# Altium footprint library TerminalBlock_WAGO.PcbLib: 170 footprints (part 8 of 11)
Each footprint in its own frame and in the unit in brackets; x right, y up, seen from the top. Pads: shape width x height; smd on the part's side, far side on the other; paste and mask are expansions set on the pad; w line width, h text height; cw(c..) or ccw(c..) is an arc to the next point about the centre after c.
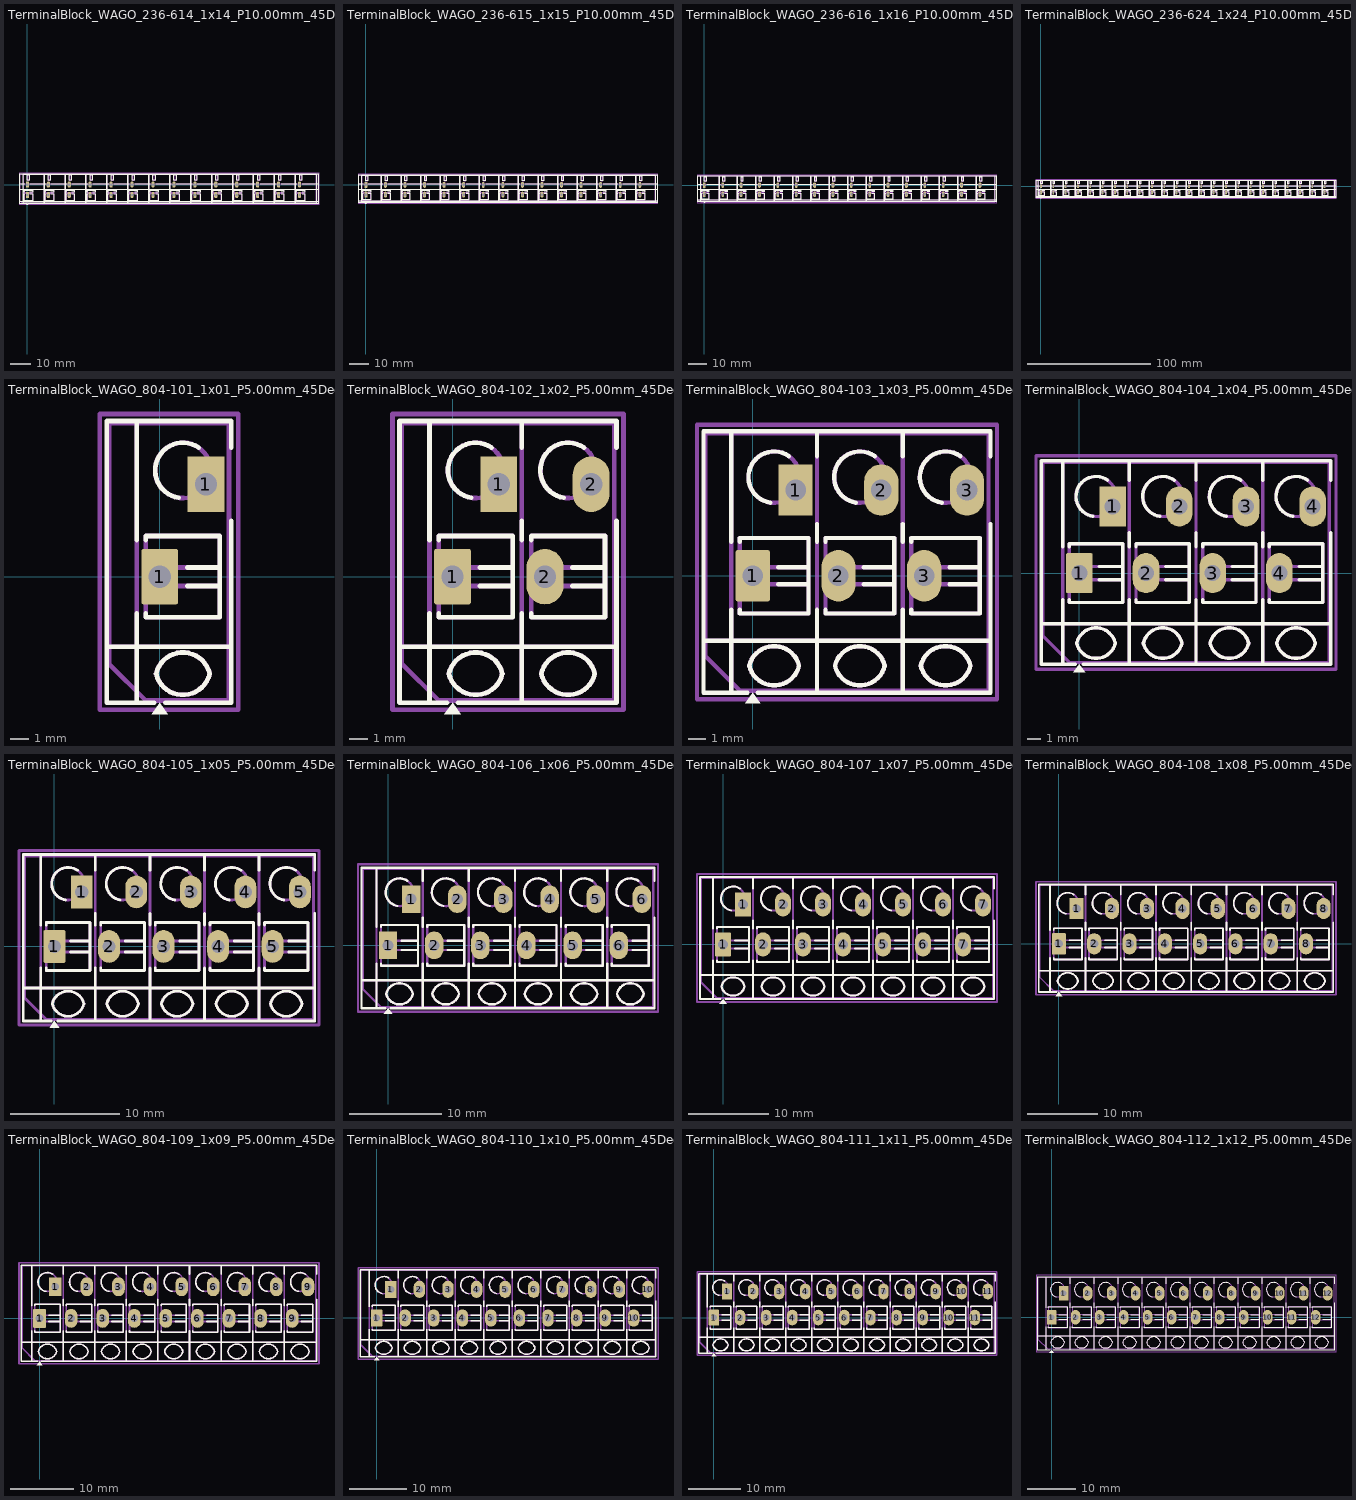
[diagram p7: the footprints below, top view; thin cyan lines are the x and y axes]

## TerminalBlock_WAGO_236-614_1x14_P10.00mm_45Degree [mm]
pads (28):
  rect 1.5x3 hole 1.15: 1(0,-5)
  rrect17% 1.5x3 hole 1.15: 1(0,0)
  rrect100% 1.5x3 hole 1.15: 2(10,-5) 2(10,0) 3(20,-5) 3(20,0) 4(30,-5) 4(30,0) 5(40,-5) 5(40,0) 6(50,-5) 6(50,0) 7(60,-5) 7(60,0) 8(70,-5) 8(70,0) 9(80,-5) 9(80,0) 10(90,-5) 10(90,0) 11(100,-5) 11(100,0) 12(110,-5) 12(110,0) 13(120,-5) 13(120,0) 14(130,-5) 14(130,0)
F.SilkS:
  drawing of 275 lines, arcs and shapes, not listed
F.Fab:
  drawing of 232 lines, arcs and shapes, not listed
  text "'.Designator'" at 63.603,-1.84 h1
F.CrtYd:
  lines w0.254: -4,-9.5 -4,5.5 139.3,5.5 139.3,-9.5 -4,-9.5

## TerminalBlock_WAGO_236-615_1x15_P10.00mm_45Degree [mm]
pads (30):
  rect 1.5x3 hole 1.15: 1(0,-5)
  rrect17% 1.5x3 hole 1.15: 1(0,0)
  rrect100% 1.5x3 hole 1.15: 2(10,-5) 2(10,0) 3(20,-5) 3(20,0) 4(30,-5) 4(30,0) 5(40,-5) 5(40,0) 6(50,-5) 6(50,0) 7(60,-5) 7(60,0) 8(70,-5) 8(70,0) 9(80,-5) 9(80,0) 10(90,-5) 10(90,0) 11(100,-5) 11(100,0) 12(110,-5) 12(110,0) 13(120,-5) 13(120,0) 14(130,-5) 14(130,0) 15(140,-5) 15(140,0)
F.SilkS:
  drawing of 294 lines, arcs and shapes, not listed
F.Fab:
  drawing of 248 lines, arcs and shapes, not listed
  text "'.Designator'" at 68.603,-1.84 h1
F.CrtYd:
  lines w0.254: -4,-9.5 -4,5.5 149.3,5.5 149.3,-9.5 -4,-9.5

## TerminalBlock_WAGO_236-616_1x16_P10.00mm_45Degree [mm]
pads (32):
  rect 1.5x3 hole 1.15: 1(0,-5)
  rrect17% 1.5x3 hole 1.15: 1(0,0)
  rrect100% 1.5x3 hole 1.15: 2(10,-5) 2(10,0) 3(20,-5) 3(20,0) 4(30,-5) 4(30,0) 5(40,-5) 5(40,0) 6(50,-5) 6(50,0) 7(60,-5) 7(60,0) 8(70,-5) 8(70,0) 9(80,-5) 9(80,0) 10(90,-5) 10(90,0) 11(100,-5) 11(100,0) 12(110,-5) 12(110,0) 13(120,-5) 13(120,0) 14(130,-5) 14(130,0) 15(140,-5) 15(140,0) 16(150,-5) 16(150,0)
F.SilkS:
  drawing of 313 lines, arcs and shapes, not listed
F.Fab:
  drawing of 264 lines, arcs and shapes, not listed
  text "'.Designator'" at 73.603,-1.84 h1
F.CrtYd:
  lines w0.254: -4,-9.5 -4,5.5 159.3,5.5 159.3,-9.5 -4,-9.5

## TerminalBlock_WAGO_236-624_1x24_P10.00mm_45Degree [mm]
pads (48):
  rect 1.5x3 hole 1.15: 1(0,-5)
  rrect17% 1.5x3 hole 1.15: 1(0,0)
  rrect100% 1.5x3 hole 1.15: 2(10,-5) 2(10,0) 3(20,-5) 3(20,0) 4(30,-5) 4(30,0) 5(40,-5) 5(40,0) 6(50,-5) 6(50,0) 7(60,-5) 7(60,0) 8(70,-5) 8(70,0) 9(80,-5) 9(80,0) 10(90,-5) 10(90,0) 11(100,-5) 11(100,0) 12(110,-5) 12(110,0) 13(120,-5) 13(120,0) 14(130,-5) 14(130,0) 15(140,-5) 15(140,0) 16(150,-5) 16(150,0) 17(160,-5) 17(160,0) 18(170,-5) 18(170,0) 19(180,-5) 19(180,0) 20(190,-5) 20(190,0) 21(200,-5) 21(200,0) 22(210,-5) 22(210,0) 23(220,-5) 23(220,0) 24(230,-5) 24(230,0)
F.SilkS:
  drawing of 465 lines, arcs and shapes, not listed
F.Fab:
  drawing of 392 lines, arcs and shapes, not listed
  text "'.Designator'" at 113.603,-1.84 h1
F.CrtYd:
  lines w0.254: -4,-9.5 -4,5.5 239.3,5.5 239.3,-9.5 -4,-9.5

## TerminalBlock_WAGO_804-101_1x01_P5.00mm_45Degree [mm]
pads (2):
  rrect12% 2x3 hole 1.2: 1(0,0)
  rect 2x3 hole 1.2: 1(2.5,5)
F.SilkS:
  region: 0.44,-7.43 -0.44,-7.43 0,-6.82
  lines w0.254: -2.87,-3.8 3.87,-3.8 ; -1.25,-6.82 -1.25,-1.98 ; -1.25,1.98 -1.25,8.42 ; -0.75,-1.98 -0.75,-2.2 3.25,-2.2 3.25,2.2 -0.75,2.2 -0.75,1.98 ; -0.3,-6.82 -2.87,-6.82 -2.87,8.42 3.87,8.42 3.87,6.98 ; 0.3,-6.82 3.87,-6.82 3.87,3.02 ; 1.02,4.268 cw(c1.25,5.75) 2.109,6.98 ; 1.48,-0.5 3.25,-0.5 3.25,0.5 1.48,0.5 ; -0.2,-5.25 cw(c1.25,-5.589) 2.7,-5.25 cw(c1.25,-4.911) -0.2,-5.25
F.Fab:
  circle w0.254: c1.25,5.75 r1.5
  lines w0.254: -2.75,-3.8 3.75,-3.8 ; -1.25,-6.7 -1.25,8.3 ; -2.75,-4.7 -2.75,8.3 3.75,8.3 3.75,-6.7 -0.75,-6.7 -2.75,-4.7 ; -0.75,-2.2 -0.75,2.2 3.25,2.2 3.25,-2.2 -0.75,-2.2 ; -0.75,-0.5 -0.75,0.5 3.25,0.5 3.25,-0.5 -0.75,-0.5 ; -0.2,-5.25 cw(c1.25,-5.589) 2.7,-5.25 cw(c1.25,-4.911) -0.2,-5.25
  text "'.Designator'" at -3.547,0.96 h1
F.CrtYd:
  lines w0.254: -3.25,-7.2 -3.25,8.8 4.25,8.8 4.25,-7.2 -3.25,-7.2

## TerminalBlock_WAGO_804-102_1x02_P5.00mm_45Degree [mm]
pads (4):
  rrect12% 2x3 hole 1.2: 1(0,0)
  rect 2x3 hole 1.2: 1(2.5,5)
  rrect100% 2x3 hole 1.2: 2(5,0) 2(7.5,5)
F.SilkS:
  region: 0.44,-7.43 -0.44,-7.43 0,-6.82
  lines w0.254: -2.87,-3.8 8.87,-3.8 ; -1.25,-6.82 -1.25,-1.98 ; -1.25,1.98 -1.25,8.42 ; -0.75,-1.98 -0.75,-2.2 3.25,-2.2 3.25,2.2 -0.75,2.2 -0.75,1.98 ; -0.3,-6.82 -2.87,-6.82 -2.87,8.42 8.87,8.42 8.87,6.98 ; 0.3,-6.82 8.87,-6.82 8.87,3.02 ; 1.02,4.268 cw(c1.25,5.75) 2.109,6.98 ; 1.48,-0.5 3.25,-0.5 3.25,0.5 1.48,0.5 ; 3.75,-6.82 3.75,-1.98 ; 3.75,1.98 3.75,3.02 ; 3.75,6.98 3.75,8.42 ; 4.25,-1.98 4.25,-2.2 8.25,-2.2 8.25,2.2 4.25,2.2 4.25,1.98 ; 6.02,4.268 cw(c6.25,5.75) 7.109,6.98 ; 6.48,-0.5 8.25,-0.5 8.25,0.5 6.48,0.5 ; -0.2,-5.25 cw(c1.25,-5.589) 2.7,-5.25 cw(c1.25,-4.911) -0.2,-5.25 ; 4.8,-5.25 cw(c6.25,-5.589) 7.7,-5.25 cw(c6.25,-4.911) 4.8,-5.25
F.Fab:
  circle w0.254: c1.25,5.75 r1.5
  circle w0.254: c6.25,5.75 r1.5
  lines w0.254: -2.75,-3.8 8.75,-3.8 ; -1.25,-6.7 -1.25,8.3 ; 3.75,-6.7 3.75,8.3 ; -2.75,-4.7 -2.75,8.3 8.75,8.3 8.75,-6.7 -0.75,-6.7 -2.75,-4.7 ; -0.75,-2.2 -0.75,2.2 3.25,2.2 3.25,-2.2 -0.75,-2.2 ; -0.75,-0.5 -0.75,0.5 3.25,0.5 3.25,-0.5 -0.75,-0.5 ; -0.2,-5.25 cw(c1.25,-5.589) 2.7,-5.25 cw(c1.25,-4.911) -0.2,-5.25 ; 4.25,-2.2 4.25,2.2 8.25,2.2 8.25,-2.2 4.25,-2.2 ; 4.25,-0.5 4.25,0.5 8.25,0.5 8.25,-0.5 4.25,-0.5 ; 4.8,-5.25 cw(c6.25,-5.589) 7.7,-5.25 cw(c6.25,-4.911) 4.8,-5.25
  text "'.Designator'" at -1.047,0.96 h1
F.CrtYd:
  lines w0.254: -3.25,-7.2 -3.25,8.8 9.25,8.8 9.25,-7.2 -3.25,-7.2

## TerminalBlock_WAGO_804-103_1x03_P5.00mm_45Degree [mm]
pads (6):
  rrect12% 2x3 hole 1.2: 1(0,0)
  rect 2x3 hole 1.2: 1(2.5,5)
  rrect100% 2x3 hole 1.2: 2(5,0) 2(7.5,5) 3(10,0) 3(12.5,5)
F.SilkS:
  region: 0.44,-7.43 -0.44,-7.43 0,-6.82
  lines w0.254: -2.87,-3.8 13.87,-3.8 ; -1.25,-6.82 -1.25,-1.98 ; -1.25,1.98 -1.25,8.42 ; -0.75,-1.98 -0.75,-2.2 3.25,-2.2 3.25,2.2 -0.75,2.2 -0.75,1.98 ; -0.3,-6.82 -2.87,-6.82 -2.87,8.42 13.87,8.42 13.87,6.98 ; 0.3,-6.82 13.87,-6.82 13.87,3.02 ; 1.02,4.268 cw(c1.25,5.75) 2.109,6.98 ; 1.48,-0.5 3.25,-0.5 3.25,0.5 1.48,0.5 ; 3.75,-6.82 3.75,-1.98 ; 3.75,1.98 3.75,3.02 ; 3.75,6.98 3.75,8.42 ; 4.25,-1.98 4.25,-2.2 8.25,-2.2 8.25,2.2 4.25,2.2 4.25,1.98 ; 6.02,4.268 cw(c6.25,5.75) 7.109,6.98 ; 6.48,-0.5 8.25,-0.5 8.25,0.5 6.48,0.5 ; 8.75,-6.82 8.75,-1.98 ; 8.75,1.98 8.75,3.02 ; 8.75,6.98 8.75,8.42 ; 9.25,-1.98 9.25,-2.2 13.25,-2.2 13.25,2.2 9.25,2.2 9.25,1.98 ; 11.02,4.268 cw(c11.25,5.75) 12.109,6.98 ; 11.48,-0.5 13.25,-0.5 13.25,0.5 11.48,0.5 ; -0.2,-5.25 cw(c1.25,-5.589) 2.7,-5.25 cw(c1.25,-4.911) -0.2,-5.25 ; 4.8,-5.25 cw(c6.25,-5.589) 7.7,-5.25 cw(c6.25,-4.911) 4.8,-5.25 ; 9.8,-5.25 cw(c11.25,-5.589) 12.7,-5.25 cw(c11.25,-4.911) 9.8,-5.25
F.Fab:
  circle w0.254: c1.25,5.75 r1.5
  circle w0.254: c6.25,5.75 r1.5
  circle w0.254: c11.25,5.75 r1.5
  lines w0.254: -2.75,-3.8 13.75,-3.8 ; -1.25,-6.7 -1.25,8.3 ; 3.75,-6.7 3.75,8.3 ; 8.75,-6.7 8.75,8.3 ; -2.75,-4.7 -2.75,8.3 13.75,8.3 13.75,-6.7 -0.75,-6.7 -2.75,-4.7 ; -0.75,-2.2 -0.75,2.2 3.25,2.2 3.25,-2.2 -0.75,-2.2 ; -0.75,-0.5 -0.75,0.5 3.25,0.5 3.25,-0.5 -0.75,-0.5 ; -0.2,-5.25 cw(c1.25,-5.589) 2.7,-5.25 cw(c1.25,-4.911) -0.2,-5.25 ; 4.25,-2.2 4.25,2.2 8.25,2.2 8.25,-2.2 4.25,-2.2 ; 4.25,-0.5 4.25,0.5 8.25,0.5 8.25,-0.5 4.25,-0.5 ; 4.8,-5.25 cw(c6.25,-5.589) 7.7,-5.25 cw(c6.25,-4.911) 4.8,-5.25 ; 9.25,-2.2 9.25,2.2 13.25,2.2 13.25,-2.2 9.25,-2.2 ; 9.25,-0.5 9.25,0.5 13.25,0.5 13.25,-0.5 9.25,-0.5 ; 9.8,-5.25 cw(c11.25,-5.589) 12.7,-5.25 cw(c11.25,-4.911) 9.8,-5.25
  text "'.Designator'" at 1.453,0.96 h1
F.CrtYd:
  lines w0.254: -3.25,-7.2 -3.25,8.8 14.25,8.8 14.25,-7.2 -3.25,-7.2

## TerminalBlock_WAGO_804-104_1x04_P5.00mm_45Degree [mm]
pads (8):
  rrect12% 2x3 hole 1.2: 1(0,0)
  rect 2x3 hole 1.2: 1(2.5,5)
  rrect100% 2x3 hole 1.2: 2(5,0) 2(7.5,5) 3(10,0) 3(12.5,5) 4(15,0) 4(17.5,5)
F.SilkS:
  region: 0.44,-7.43 -0.44,-7.43 0,-6.82
  lines w0.254: -2.87,-3.8 18.87,-3.8 ; -1.25,-6.82 -1.25,-1.98 ; -1.25,1.98 -1.25,8.42 ; -0.75,-1.98 -0.75,-2.2 3.25,-2.2 3.25,2.2 -0.75,2.2 -0.75,1.98 ; -0.3,-6.82 -2.87,-6.82 -2.87,8.42 18.87,8.42 18.87,6.98 ; 0.3,-6.82 18.87,-6.82 18.87,3.02 ; 1.02,4.268 cw(c1.25,5.75) 2.109,6.98 ; 1.48,-0.5 3.25,-0.5 3.25,0.5 1.48,0.5 ; 3.75,-6.82 3.75,-1.98 ; 3.75,1.98 3.75,3.02 ; 3.75,6.98 3.75,8.42 ; 4.25,-1.98 4.25,-2.2 8.25,-2.2 8.25,2.2 4.25,2.2 4.25,1.98 ; 6.02,4.268 cw(c6.25,5.75) 7.109,6.98 ; 6.48,-0.5 8.25,-0.5 8.25,0.5 6.48,0.5 ; 8.75,-6.82 8.75,-1.98 ; 8.75,1.98 8.75,3.02 ; 8.75,6.98 8.75,8.42 ; 9.25,-1.98 9.25,-2.2 13.25,-2.2 13.25,2.2 9.25,2.2 9.25,1.98 ; 11.02,4.268 cw(c11.25,5.75) 12.109,6.98 ; 11.48,-0.5 13.25,-0.5 13.25,0.5 11.48,0.5 ; 13.75,-6.82 13.75,-1.98 ; 13.75,1.98 13.75,3.02 ; 13.75,6.98 13.75,8.42 ; 14.25,-1.98 14.25,-2.2 18.25,-2.2 18.25,2.2 14.25,2.2 14.25,1.98 ; 16.02,4.268 cw(c16.25,5.75) 17.109,6.98 ; 16.48,-0.5 18.25,-0.5 18.25,0.5 16.48,0.5 ; -0.2,-5.25 cw(c1.25,-5.589) 2.7,-5.25 cw(c1.25,-4.911) -0.2,-5.25 ; 4.8,-5.25 cw(c6.25,-5.589) 7.7,-5.25 cw(c6.25,-4.911) 4.8,-5.25 ; 9.8,-5.25 cw(c11.25,-5.589) 12.7,-5.25 cw(c11.25,-4.911) 9.8,-5.25 ; 14.8,-5.25 cw(c16.25,-5.589) 17.7,-5.25 cw(c16.25,-4.911) 14.8,-5.25
F.Fab:
  circle w0.254: c1.25,5.75 r1.5
  circle w0.254: c6.25,5.75 r1.5
  circle w0.254: c11.25,5.75 r1.5
  circle w0.254: c16.25,5.75 r1.5
  lines w0.254: -2.75,-3.8 18.75,-3.8 ; -1.25,-6.7 -1.25,8.3 ; 3.75,-6.7 3.75,8.3 ; 8.75,-6.7 8.75,8.3 ; 13.75,-6.7 13.75,8.3 ; -2.75,-4.7 -2.75,8.3 18.75,8.3 18.75,-6.7 -0.75,-6.7 -2.75,-4.7 ; -0.75,-2.2 -0.75,2.2 3.25,2.2 3.25,-2.2 -0.75,-2.2 ; -0.75,-0.5 -0.75,0.5 3.25,0.5 3.25,-0.5 -0.75,-0.5 ; -0.2,-5.25 cw(c1.25,-5.589) 2.7,-5.25 cw(c1.25,-4.911) -0.2,-5.25 ; 4.25,-2.2 4.25,2.2 8.25,2.2 8.25,-2.2 4.25,-2.2 ; 4.25,-0.5 4.25,0.5 8.25,0.5 8.25,-0.5 4.25,-0.5 ; 4.8,-5.25 cw(c6.25,-5.589) 7.7,-5.25 cw(c6.25,-4.911) 4.8,-5.25 ; 9.25,-2.2 9.25,2.2 13.25,2.2 13.25,-2.2 9.25,-2.2 ; 9.25,-0.5 9.25,0.5 13.25,0.5 13.25,-0.5 9.25,-0.5 ; 9.8,-5.25 cw(c11.25,-5.589) 12.7,-5.25 cw(c11.25,-4.911) 9.8,-5.25 ; 14.25,-2.2 14.25,2.2 18.25,2.2 18.25,-2.2 14.25,-2.2 ; 14.25,-0.5 14.25,0.5 18.25,0.5 18.25,-0.5 14.25,-0.5 ; 14.8,-5.25 cw(c16.25,-5.589) 17.7,-5.25 cw(c16.25,-4.911) 14.8,-5.25
  text "'.Designator'" at 3.953,0.96 h1
F.CrtYd:
  lines w0.254: -3.25,-7.2 -3.25,8.8 19.25,8.8 19.25,-7.2 -3.25,-7.2

## TerminalBlock_WAGO_804-105_1x05_P5.00mm_45Degree [mm]
pads (10):
  rrect12% 2x3 hole 1.2: 1(0,0)
  rect 2x3 hole 1.2: 1(2.5,5)
  rrect100% 2x3 hole 1.2: 2(5,0) 2(7.5,5) 3(10,0) 3(12.5,5) 4(15,0) 4(17.5,5) 5(20,0) 5(22.5,5)
F.SilkS:
  region: 0.44,-7.43 -0.44,-7.43 0,-6.82
  lines w0.254: -2.87,-3.8 23.87,-3.8 ; -1.25,-6.82 -1.25,-1.98 ; -1.25,1.98 -1.25,8.42 ; -0.75,-1.98 -0.75,-2.2 3.25,-2.2 3.25,2.2 -0.75,2.2 -0.75,1.98 ; -0.3,-6.82 -2.87,-6.82 -2.87,8.42 23.87,8.42 23.87,6.98 ; 0.3,-6.82 23.87,-6.82 23.87,3.02 ; 1.02,4.268 cw(c1.25,5.75) 2.109,6.98 ; 1.48,-0.5 3.25,-0.5 3.25,0.5 1.48,0.5 ; 3.75,-6.82 3.75,-1.98 ; 3.75,1.98 3.75,3.02 ; 3.75,6.98 3.75,8.42 ; 4.25,-1.98 4.25,-2.2 8.25,-2.2 8.25,2.2 4.25,2.2 4.25,1.98 ; 6.02,4.268 cw(c6.25,5.75) 7.109,6.98 ; 6.48,-0.5 8.25,-0.5 8.25,0.5 6.48,0.5 ; 8.75,-6.82 8.75,-1.98 ; 8.75,1.98 8.75,3.02 ; 8.75,6.98 8.75,8.42 ; 9.25,-1.98 9.25,-2.2 13.25,-2.2 13.25,2.2 9.25,2.2 9.25,1.98 ; 11.02,4.268 cw(c11.25,5.75) 12.109,6.98 ; 11.48,-0.5 13.25,-0.5 13.25,0.5 11.48,0.5 ; 13.75,-6.82 13.75,-1.98 ; 13.75,1.98 13.75,3.02 ; 13.75,6.98 13.75,8.42 ; 14.25,-1.98 14.25,-2.2 18.25,-2.2 18.25,2.2 14.25,2.2 14.25,1.98 ; 16.02,4.268 cw(c16.25,5.75) 17.109,6.98 ; 16.48,-0.5 18.25,-0.5 18.25,0.5 16.48,0.5 ; 18.75,-6.82 18.75,-1.98 ; 18.75,1.98 18.75,3.02 ; 18.75,6.98 18.75,8.42 ; 19.25,-1.98 19.25,-2.2 23.25,-2.2 23.25,2.2 19.25,2.2 19.25,1.98 ; 21.02,4.268 cw(c21.25,5.75) 22.109,6.98 ; 21.48,-0.5 23.25,-0.5 23.25,0.5 21.48,0.5 ; -0.2,-5.25 cw(c1.25,-5.589) 2.7,-5.25 cw(c1.25,-4.911) -0.2,-5.25 ; 4.8,-5.25 cw(c6.25,-5.589) 7.7,-5.25 cw(c6.25,-4.911) 4.8,-5.25 ; 9.8,-5.25 cw(c11.25,-5.589) 12.7,-5.25 cw(c11.25,-4.911) 9.8,-5.25 ; 14.8,-5.25 cw(c16.25,-5.589) 17.7,-5.25 cw(c16.25,-4.911) 14.8,-5.25 ; 19.8,-5.25 cw(c21.25,-5.589) 22.7,-5.25 cw(c21.25,-4.911) 19.8,-5.25
F.Fab:
  circle w0.254: c1.25,5.75 r1.5
  circle w0.254: c6.25,5.75 r1.5
  circle w0.254: c11.25,5.75 r1.5
  circle w0.254: c16.25,5.75 r1.5
  circle w0.254: c21.25,5.75 r1.5
  lines w0.254: -2.75,-3.8 23.75,-3.8 ; -1.25,-6.7 -1.25,8.3 ; 3.75,-6.7 3.75,8.3 ; 8.75,-6.7 8.75,8.3 ; 13.75,-6.7 13.75,8.3 ; 18.75,-6.7 18.75,8.3 ; -2.75,-4.7 -2.75,8.3 23.75,8.3 23.75,-6.7 -0.75,-6.7 -2.75,-4.7 ; -0.75,-2.2 -0.75,2.2 3.25,2.2 3.25,-2.2 -0.75,-2.2 ; -0.75,-0.5 -0.75,0.5 3.25,0.5 3.25,-0.5 -0.75,-0.5 ; -0.2,-5.25 cw(c1.25,-5.589) 2.7,-5.25 cw(c1.25,-4.911) -0.2,-5.25 ; 4.25,-2.2 4.25,2.2 8.25,2.2 8.25,-2.2 4.25,-2.2 ; 4.25,-0.5 4.25,0.5 8.25,0.5 8.25,-0.5 4.25,-0.5 ; 4.8,-5.25 cw(c6.25,-5.589) 7.7,-5.25 cw(c6.25,-4.911) 4.8,-5.25 ; 9.25,-2.2 9.25,2.2 13.25,2.2 13.25,-2.2 9.25,-2.2 ; 9.25,-0.5 9.25,0.5 13.25,0.5 13.25,-0.5 9.25,-0.5 ; 9.8,-5.25 cw(c11.25,-5.589) 12.7,-5.25 cw(c11.25,-4.911) 9.8,-5.25 ; 14.25,-2.2 14.25,2.2 18.25,2.2 18.25,-2.2 14.25,-2.2 ; 14.25,-0.5 14.25,0.5 18.25,0.5 18.25,-0.5 14.25,-0.5 ; 14.8,-5.25 cw(c16.25,-5.589) 17.7,-5.25 cw(c16.25,-4.911) 14.8,-5.25 ; 19.25,-2.2 19.25,2.2 23.25,2.2 23.25,-2.2 19.25,-2.2 ; 19.25,-0.5 19.25,0.5 23.25,0.5 23.25,-0.5 19.25,-0.5 ; 19.8,-5.25 cw(c21.25,-5.589) 22.7,-5.25 cw(c21.25,-4.911) 19.8,-5.25
  text "'.Designator'" at 6.453,0.96 h1
F.CrtYd:
  lines w0.254: -3.25,-7.2 -3.25,8.8 24.25,8.8 24.25,-7.2 -3.25,-7.2

## TerminalBlock_WAGO_804-106_1x06_P5.00mm_45Degree [mm]
pads (12):
  rrect12% 2x3 hole 1.2: 1(0,0)
  rect 2x3 hole 1.2: 1(2.5,5)
  rrect100% 2x3 hole 1.2: 2(5,0) 2(7.5,5) 3(10,0) 3(12.5,5) 4(15,0) 4(17.5,5) 5(20,0) 5(22.5,5) 6(25,0) 6(27.5,5)
F.SilkS:
  region: 0.44,-7.43 -0.44,-7.43 0,-6.82
  lines w0.254: -2.87,-3.8 28.87,-3.8 ; -1.25,-6.82 -1.25,-1.98 ; -1.25,1.98 -1.25,8.42 ; -0.75,-1.98 -0.75,-2.2 3.25,-2.2 3.25,2.2 -0.75,2.2 -0.75,1.98 ; -0.3,-6.82 -2.87,-6.82 -2.87,8.42 28.87,8.42 28.87,6.98 ; 0.3,-6.82 28.87,-6.82 28.87,3.02 ; 1.02,4.268 cw(c1.25,5.75) 2.109,6.98 ; 1.48,-0.5 3.25,-0.5 3.25,0.5 1.48,0.5 ; 3.75,-6.82 3.75,-1.98 ; 3.75,1.98 3.75,3.02 ; 3.75,6.98 3.75,8.42 ; 4.25,-1.98 4.25,-2.2 8.25,-2.2 8.25,2.2 4.25,2.2 4.25,1.98 ; 6.02,4.268 cw(c6.25,5.75) 7.109,6.98 ; 6.48,-0.5 8.25,-0.5 8.25,0.5 6.48,0.5 ; 8.75,-6.82 8.75,-1.98 ; 8.75,1.98 8.75,3.02 ; 8.75,6.98 8.75,8.42 ; 9.25,-1.98 9.25,-2.2 13.25,-2.2 13.25,2.2 9.25,2.2 9.25,1.98 ; 11.02,4.268 cw(c11.25,5.75) 12.109,6.98 ; 11.48,-0.5 13.25,-0.5 13.25,0.5 11.48,0.5 ; 13.75,-6.82 13.75,-1.98 ; 13.75,1.98 13.75,3.02 ; 13.75,6.98 13.75,8.42 ; 14.25,-1.98 14.25,-2.2 18.25,-2.2 18.25,2.2 14.25,2.2 14.25,1.98 ; 16.02,4.268 cw(c16.25,5.75) 17.109,6.98 ; 16.48,-0.5 18.25,-0.5 18.25,0.5 16.48,0.5 ; 18.75,-6.82 18.75,-1.98 ; 18.75,1.98 18.75,3.02 ; 18.75,6.98 18.75,8.42 ; 19.25,-1.98 19.25,-2.2 23.25,-2.2 23.25,2.2 19.25,2.2 19.25,1.98 ; 21.02,4.268 cw(c21.25,5.75) 22.109,6.98 ; 21.48,-0.5 23.25,-0.5 23.25,0.5 21.48,0.5 ; 23.75,-6.82 23.75,-1.98 ; 23.75,1.98 23.75,3.02 ; 23.75,6.98 23.75,8.42 ; 24.25,-1.98 24.25,-2.2 28.25,-2.2 28.25,2.2 24.25,2.2 24.25,1.98 ; 26.02,4.268 cw(c26.25,5.75) 27.109,6.98 ; 26.48,-0.5 28.25,-0.5 28.25,0.5 26.48,0.5 ; -0.2,-5.25 cw(c1.25,-5.589) 2.7,-5.25 cw(c1.25,-4.911) -0.2,-5.25 ; 4.8,-5.25 cw(c6.25,-5.589) 7.7,-5.25 cw(c6.25,-4.911) 4.8,-5.25 ; 9.8,-5.25 cw(c11.25,-5.589) 12.7,-5.25 cw(c11.25,-4.911) 9.8,-5.25 ; 14.8,-5.25 cw(c16.25,-5.589) 17.7,-5.25 cw(c16.25,-4.911) 14.8,-5.25 ; 19.8,-5.25 cw(c21.25,-5.589) 22.7,-5.25 cw(c21.25,-4.911) 19.8,-5.25 ; 24.8,-5.25 cw(c26.25,-5.589) 27.7,-5.25 cw(c26.25,-4.911) 24.8,-5.25
F.Fab:
  circle w0.254: c1.25,5.75 r1.5
  circle w0.254: c6.25,5.75 r1.5
  circle w0.254: c11.25,5.75 r1.5
  circle w0.254: c16.25,5.75 r1.5
  circle w0.254: c21.25,5.75 r1.5
  circle w0.254: c26.25,5.75 r1.5
  lines w0.254: -2.75,-3.8 28.75,-3.8 ; -1.25,-6.7 -1.25,8.3 ; 3.75,-6.7 3.75,8.3 ; 8.75,-6.7 8.75,8.3 ; 13.75,-6.7 13.75,8.3 ; 18.75,-6.7 18.75,8.3 ; 23.75,-6.7 23.75,8.3 ; -2.75,-4.7 -2.75,8.3 28.75,8.3 28.75,-6.7 -0.75,-6.7 -2.75,-4.7 ; -0.75,-2.2 -0.75,2.2 3.25,2.2 3.25,-2.2 -0.75,-2.2 ; -0.75,-0.5 -0.75,0.5 3.25,0.5 3.25,-0.5 -0.75,-0.5 ; -0.2,-5.25 cw(c1.25,-5.589) 2.7,-5.25 cw(c1.25,-4.911) -0.2,-5.25 ; 4.25,-2.2 4.25,2.2 8.25,2.2 8.25,-2.2 4.25,-2.2 ; 4.25,-0.5 4.25,0.5 8.25,0.5 8.25,-0.5 4.25,-0.5 ; 4.8,-5.25 cw(c6.25,-5.589) 7.7,-5.25 cw(c6.25,-4.911) 4.8,-5.25 ; 9.25,-2.2 9.25,2.2 13.25,2.2 13.25,-2.2 9.25,-2.2 ; 9.25,-0.5 9.25,0.5 13.25,0.5 13.25,-0.5 9.25,-0.5 ; 9.8,-5.25 cw(c11.25,-5.589) 12.7,-5.25 cw(c11.25,-4.911) 9.8,-5.25 ; 14.25,-2.2 14.25,2.2 18.25,2.2 18.25,-2.2 14.25,-2.2 ; 14.25,-0.5 14.25,0.5 18.25,0.5 18.25,-0.5 14.25,-0.5 ; 14.8,-5.25 cw(c16.25,-5.589) 17.7,-5.25 cw(c16.25,-4.911) 14.8,-5.25 ; 19.25,-2.2 19.25,2.2 23.25,2.2 23.25,-2.2 19.25,-2.2 ; 19.25,-0.5 19.25,0.5 23.25,0.5 23.25,-0.5 19.25,-0.5 ; 19.8,-5.25 cw(c21.25,-5.589) 22.7,-5.25 cw(c21.25,-4.911) 19.8,-5.25 ; 24.25,-2.2 24.25,2.2 28.25,2.2 28.25,-2.2 24.25,-2.2 ; 24.25,-0.5 24.25,0.5 28.25,0.5 28.25,-0.5 24.25,-0.5 ; 24.8,-5.25 cw(c26.25,-5.589) 27.7,-5.25 cw(c26.25,-4.911) 24.8,-5.25
  text "'.Designator'" at 8.953,0.96 h1
F.CrtYd:
  lines w0.254: -3.25,-7.2 -3.25,8.8 29.25,8.8 29.25,-7.2 -3.25,-7.2

## TerminalBlock_WAGO_804-107_1x07_P5.00mm_45Degree [mm]
pads (14):
  rrect12% 2x3 hole 1.2: 1(0,0)
  rect 2x3 hole 1.2: 1(2.5,5)
  rrect100% 2x3 hole 1.2: 2(5,0) 2(7.5,5) 3(10,0) 3(12.5,5) 4(15,0) 4(17.5,5) 5(20,0) 5(22.5,5) 6(25,0) 6(27.5,5) 7(30,0) 7(32.5,5)
F.SilkS:
  region: 0.44,-7.43 -0.44,-7.43 0,-6.82
  lines w0.254: -2.87,-3.8 33.87,-3.8 ; -1.25,-6.82 -1.25,-1.98 ; -1.25,1.98 -1.25,8.42 ; -0.75,-1.98 -0.75,-2.2 3.25,-2.2 3.25,2.2 -0.75,2.2 -0.75,1.98 ; -0.3,-6.82 -2.87,-6.82 -2.87,8.42 33.87,8.42 33.87,6.98 ; 0.3,-6.82 33.87,-6.82 33.87,3.02 ; 1.02,4.268 cw(c1.25,5.75) 2.109,6.98 ; 1.48,-0.5 3.25,-0.5 3.25,0.5 1.48,0.5 ; 3.75,-6.82 3.75,-1.98 ; 3.75,1.98 3.75,3.02 ; 3.75,6.98 3.75,8.42 ; 4.25,-1.98 4.25,-2.2 8.25,-2.2 8.25,2.2 4.25,2.2 4.25,1.98 ; 6.02,4.268 cw(c6.25,5.75) 7.109,6.98 ; 6.48,-0.5 8.25,-0.5 8.25,0.5 6.48,0.5 ; 8.75,-6.82 8.75,-1.98 ; 8.75,1.98 8.75,3.02 ; 8.75,6.98 8.75,8.42 ; 9.25,-1.98 9.25,-2.2 13.25,-2.2 13.25,2.2 9.25,2.2 9.25,1.98 ; 11.02,4.268 cw(c11.25,5.75) 12.109,6.98 ; 11.48,-0.5 13.25,-0.5 13.25,0.5 11.48,0.5 ; 13.75,-6.82 13.75,-1.98 ; 13.75,1.98 13.75,3.02 ; 13.75,6.98 13.75,8.42 ; 14.25,-1.98 14.25,-2.2 18.25,-2.2 18.25,2.2 14.25,2.2 14.25,1.98 ; 16.02,4.268 cw(c16.25,5.75) 17.109,6.98 ; 16.48,-0.5 18.25,-0.5 18.25,0.5 16.48,0.5 ; 18.75,-6.82 18.75,-1.98 ; 18.75,1.98 18.75,3.02 ; 18.75,6.98 18.75,8.42 ; 19.25,-1.98 19.25,-2.2 23.25,-2.2 23.25,2.2 19.25,2.2 19.25,1.98 ; 21.02,4.268 cw(c21.25,5.75) 22.109,6.98 ; 21.48,-0.5 23.25,-0.5 23.25,0.5 21.48,0.5 ; 23.75,-6.82 23.75,-1.98 ; 23.75,1.98 23.75,3.02 ; 23.75,6.98 23.75,8.42 ; 24.25,-1.98 24.25,-2.2 28.25,-2.2 28.25,2.2 24.25,2.2 24.25,1.98 ; 26.02,4.268 cw(c26.25,5.75) 27.109,6.98 ; 26.48,-0.5 28.25,-0.5 28.25,0.5 26.48,0.5 ; 28.75,-6.82 28.75,-1.98 ; 28.75,1.98 28.75,3.02 ; 28.75,6.98 28.75,8.42 ; 29.25,-1.98 29.25,-2.2 33.25,-2.2 33.25,2.2 29.25,2.2 29.25,1.98 ; 31.02,4.268 cw(c31.25,5.75) 32.109,6.98 ; 31.48,-0.5 33.25,-0.5 33.25,0.5 31.48,0.5 ; -0.2,-5.25 cw(c1.25,-5.589) 2.7,-5.25 cw(c1.25,-4.911) -0.2,-5.25 ; 4.8,-5.25 cw(c6.25,-5.589) 7.7,-5.25 cw(c6.25,-4.911) 4.8,-5.25 ; 9.8,-5.25 cw(c11.25,-5.589) 12.7,-5.25 cw(c11.25,-4.911) 9.8,-5.25 ; 14.8,-5.25 cw(c16.25,-5.589) 17.7,-5.25 cw(c16.25,-4.911) 14.8,-5.25 ; 19.8,-5.25 cw(c21.25,-5.589) 22.7,-5.25 cw(c21.25,-4.911) 19.8,-5.25 ; 24.8,-5.25 cw(c26.25,-5.589) 27.7,-5.25 cw(c26.25,-4.911) 24.8,-5.25 ; 29.8,-5.25 cw(c31.25,-5.589) 32.7,-5.25 cw(c31.25,-4.911) 29.8,-5.25
F.Fab:
  circle w0.254: c1.25,5.75 r1.5
  circle w0.254: c6.25,5.75 r1.5
  circle w0.254: c11.25,5.75 r1.5
  circle w0.254: c16.25,5.75 r1.5
  circle w0.254: c21.25,5.75 r1.5
  circle w0.254: c26.25,5.75 r1.5
  circle w0.254: c31.25,5.75 r1.5
  lines w0.254: -2.75,-3.8 33.75,-3.8 ; -1.25,-6.7 -1.25,8.3 ; 3.75,-6.7 3.75,8.3 ; 8.75,-6.7 8.75,8.3 ; 13.75,-6.7 13.75,8.3 ; 18.75,-6.7 18.75,8.3 ; 23.75,-6.7 23.75,8.3 ; 28.75,-6.7 28.75,8.3 ; -2.75,-4.7 -2.75,8.3 33.75,8.3 33.75,-6.7 -0.75,-6.7 -2.75,-4.7 ; -0.75,-2.2 -0.75,2.2 3.25,2.2 3.25,-2.2 -0.75,-2.2 ; -0.75,-0.5 -0.75,0.5 3.25,0.5 3.25,-0.5 -0.75,-0.5 ; -0.2,-5.25 cw(c1.25,-5.589) 2.7,-5.25 cw(c1.25,-4.911) -0.2,-5.25 ; 4.25,-2.2 4.25,2.2 8.25,2.2 8.25,-2.2 4.25,-2.2 ; 4.25,-0.5 4.25,0.5 8.25,0.5 8.25,-0.5 4.25,-0.5 ; 4.8,-5.25 cw(c6.25,-5.589) 7.7,-5.25 cw(c6.25,-4.911) 4.8,-5.25 ; 9.25,-2.2 9.25,2.2 13.25,2.2 13.25,-2.2 9.25,-2.2 ; 9.25,-0.5 9.25,0.5 13.25,0.5 13.25,-0.5 9.25,-0.5 ; 9.8,-5.25 cw(c11.25,-5.589) 12.7,-5.25 cw(c11.25,-4.911) 9.8,-5.25 ; 14.25,-2.2 14.25,2.2 18.25,2.2 18.25,-2.2 14.25,-2.2 ; 14.25,-0.5 14.25,0.5 18.25,0.5 18.25,-0.5 14.25,-0.5 ; 14.8,-5.25 cw(c16.25,-5.589) 17.7,-5.25 cw(c16.25,-4.911) 14.8,-5.25 ; 19.25,-2.2 19.25,2.2 23.25,2.2 23.25,-2.2 19.25,-2.2 ; 19.25,-0.5 19.25,0.5 23.25,0.5 23.25,-0.5 19.25,-0.5 ; 19.8,-5.25 cw(c21.25,-5.589) 22.7,-5.25 cw(c21.25,-4.911) 19.8,-5.25 ; 24.25,-2.2 24.25,2.2 28.25,2.2 28.25,-2.2 24.25,-2.2 ; 24.25,-0.5 24.25,0.5 28.25,0.5 28.25,-0.5 24.25,-0.5 ; 24.8,-5.25 cw(c26.25,-5.589) 27.7,-5.25 cw(c26.25,-4.911) 24.8,-5.25 ; 29.25,-2.2 29.25,2.2 33.25,2.2 33.25,-2.2 29.25,-2.2 ; 29.25,-0.5 29.25,0.5 33.25,0.5 33.25,-0.5 29.25,-0.5 ; 29.8,-5.25 cw(c31.25,-5.589) 32.7,-5.25 cw(c31.25,-4.911) 29.8,-5.25
  text "'.Designator'" at 11.453,0.96 h1
F.CrtYd:
  lines w0.254: -3.25,-7.2 -3.25,8.8 34.25,8.8 34.25,-7.2 -3.25,-7.2

## TerminalBlock_WAGO_804-108_1x08_P5.00mm_45Degree [mm]
pads (16):
  rrect12% 2x3 hole 1.2: 1(0,0)
  rect 2x3 hole 1.2: 1(2.5,5)
  rrect100% 2x3 hole 1.2: 2(5,0) 2(7.5,5) 3(10,0) 3(12.5,5) 4(15,0) 4(17.5,5) 5(20,0) 5(22.5,5) 6(25,0) 6(27.5,5) 7(30,0) 7(32.5,5) 8(35,0) 8(37.5,5)
F.SilkS:
  region: 0.44,-7.43 -0.44,-7.43 0,-6.82
  lines w0.254: -2.87,-3.8 38.87,-3.8 ; -1.25,-6.82 -1.25,-1.98 ; -1.25,1.98 -1.25,8.42 ; -0.75,-1.98 -0.75,-2.2 3.25,-2.2 3.25,2.2 -0.75,2.2 -0.75,1.98 ; -0.3,-6.82 -2.87,-6.82 -2.87,8.42 38.87,8.42 38.87,6.98 ; 0.3,-6.82 38.87,-6.82 38.87,3.02 ; 1.02,4.268 cw(c1.25,5.75) 2.109,6.98 ; 1.48,-0.5 3.25,-0.5 3.25,0.5 1.48,0.5 ; 3.75,-6.82 3.75,-1.98 ; 3.75,1.98 3.75,3.02 ; 3.75,6.98 3.75,8.42 ; 4.25,-1.98 4.25,-2.2 8.25,-2.2 8.25,2.2 4.25,2.2 4.25,1.98 ; 6.02,4.268 cw(c6.25,5.75) 7.109,6.98 ; 6.48,-0.5 8.25,-0.5 8.25,0.5 6.48,0.5 ; 8.75,-6.82 8.75,-1.98 ; 8.75,1.98 8.75,3.02 ; 8.75,6.98 8.75,8.42 ; 9.25,-1.98 9.25,-2.2 13.25,-2.2 13.25,2.2 9.25,2.2 9.25,1.98 ; 11.02,4.268 cw(c11.25,5.75) 12.109,6.98 ; 11.48,-0.5 13.25,-0.5 13.25,0.5 11.48,0.5 ; 13.75,-6.82 13.75,-1.98 ; 13.75,1.98 13.75,3.02 ; 13.75,6.98 13.75,8.42 ; 14.25,-1.98 14.25,-2.2 18.25,-2.2 18.25,2.2 14.25,2.2 14.25,1.98 ; 16.02,4.268 cw(c16.25,5.75) 17.109,6.98 ; 16.48,-0.5 18.25,-0.5 18.25,0.5 16.48,0.5 ; 18.75,-6.82 18.75,-1.98 ; 18.75,1.98 18.75,3.02 ; 18.75,6.98 18.75,8.42 ; 19.25,-1.98 19.25,-2.2 23.25,-2.2 23.25,2.2 19.25,2.2 19.25,1.98 ; 21.02,4.268 cw(c21.25,5.75) 22.109,6.98 ; 21.48,-0.5 23.25,-0.5 23.25,0.5 21.48,0.5 ; 23.75,-6.82 23.75,-1.98 ; 23.75,1.98 23.75,3.02 ; 23.75,6.98 23.75,8.42 ; 24.25,-1.98 24.25,-2.2 28.25,-2.2 28.25,2.2 24.25,2.2 24.25,1.98 ; 26.02,4.268 cw(c26.25,5.75) 27.109,6.98 ; 26.48,-0.5 28.25,-0.5 28.25,0.5 26.48,0.5 ; 28.75,-6.82 28.75,-1.98 ; 28.75,1.98 28.75,3.02 ; 28.75,6.98 28.75,8.42 ; 29.25,-1.98 29.25,-2.2 33.25,-2.2 33.25,2.2 29.25,2.2 29.25,1.98 ; 31.02,4.268 cw(c31.25,5.75) 32.109,6.98 ; 31.48,-0.5 33.25,-0.5 33.25,0.5 31.48,0.5 ; 33.75,-6.82 33.75,-1.98 ; 33.75,1.98 33.75,3.02 ; 33.75,6.98 33.75,8.42 ; 34.25,-1.98 34.25,-2.2 38.25,-2.2 38.25,2.2 34.25,2.2 34.25,1.98 ; 36.02,4.268 cw(c36.25,5.75) 37.109,6.98 ; 36.48,-0.5 38.25,-0.5 38.25,0.5 36.48,0.5 ; -0.2,-5.25 cw(c1.25,-5.589) 2.7,-5.25 cw(c1.25,-4.911) -0.2,-5.25 ; 4.8,-5.25 cw(c6.25,-5.589) 7.7,-5.25 cw(c6.25,-4.911) 4.8,-5.25 ; 9.8,-5.25 cw(c11.25,-5.589) 12.7,-5.25 cw(c11.25,-4.911) 9.8,-5.25 ; 14.8,-5.25 cw(c16.25,-5.589) 17.7,-5.25 cw(c16.25,-4.911) 14.8,-5.25 ; 19.8,-5.25 cw(c21.25,-5.589) 22.7,-5.25 cw(c21.25,-4.911) 19.8,-5.25 ; 24.8,-5.25 cw(c26.25,-5.589) 27.7,-5.25 cw(c26.25,-4.911) 24.8,-5.25 ; 29.8,-5.25 cw(c31.25,-5.589) 32.7,-5.25 cw(c31.25,-4.911) 29.8,-5.25 ; 34.8,-5.25 cw(c36.25,-5.589) 37.7,-5.25 cw(c36.25,-4.911) 34.8,-5.25
F.Fab:
  circle w0.254: c1.25,5.75 r1.5
  circle w0.254: c6.25,5.75 r1.5
  circle w0.254: c11.25,5.75 r1.5
  circle w0.254: c16.25,5.75 r1.5
  circle w0.254: c21.25,5.75 r1.5
  circle w0.254: c26.25,5.75 r1.5
  circle w0.254: c31.25,5.75 r1.5
  circle w0.254: c36.25,5.75 r1.5
  lines w0.254: -2.75,-3.8 38.75,-3.8 ; -1.25,-6.7 -1.25,8.3 ; 3.75,-6.7 3.75,8.3 ; 8.75,-6.7 8.75,8.3 ; 13.75,-6.7 13.75,8.3 ; 18.75,-6.7 18.75,8.3 ; 23.75,-6.7 23.75,8.3 ; 28.75,-6.7 28.75,8.3 ; 33.75,-6.7 33.75,8.3 ; -2.75,-4.7 -2.75,8.3 38.75,8.3 38.75,-6.7 -0.75,-6.7 -2.75,-4.7 ; -0.75,-2.2 -0.75,2.2 3.25,2.2 3.25,-2.2 -0.75,-2.2 ; -0.75,-0.5 -0.75,0.5 3.25,0.5 3.25,-0.5 -0.75,-0.5 ; -0.2,-5.25 cw(c1.25,-5.589) 2.7,-5.25 cw(c1.25,-4.911) -0.2,-5.25 ; 4.25,-2.2 4.25,2.2 8.25,2.2 8.25,-2.2 4.25,-2.2 ; 4.25,-0.5 4.25,0.5 8.25,0.5 8.25,-0.5 4.25,-0.5 ; 4.8,-5.25 cw(c6.25,-5.589) 7.7,-5.25 cw(c6.25,-4.911) 4.8,-5.25 ; 9.25,-2.2 9.25,2.2 13.25,2.2 13.25,-2.2 9.25,-2.2 ; 9.25,-0.5 9.25,0.5 13.25,0.5 13.25,-0.5 9.25,-0.5 ; 9.8,-5.25 cw(c11.25,-5.589) 12.7,-5.25 cw(c11.25,-4.911) 9.8,-5.25 ; 14.25,-2.2 14.25,2.2 18.25,2.2 18.25,-2.2 14.25,-2.2 ; 14.25,-0.5 14.25,0.5 18.25,0.5 18.25,-0.5 14.25,-0.5 ; 14.8,-5.25 cw(c16.25,-5.589) 17.7,-5.25 cw(c16.25,-4.911) 14.8,-5.25 ; 19.25,-2.2 19.25,2.2 23.25,2.2 23.25,-2.2 19.25,-2.2 ; 19.25,-0.5 19.25,0.5 23.25,0.5 23.25,-0.5 19.25,-0.5 ; 19.8,-5.25 cw(c21.25,-5.589) 22.7,-5.25 cw(c21.25,-4.911) 19.8,-5.25 ; 24.25,-2.2 24.25,2.2 28.25,2.2 28.25,-2.2 24.25,-2.2 ; 24.25,-0.5 24.25,0.5 28.25,0.5 28.25,-0.5 24.25,-0.5 ; 24.8,-5.25 cw(c26.25,-5.589) 27.7,-5.25 cw(c26.25,-4.911) 24.8,-5.25 ; 29.25,-2.2 29.25,2.2 33.25,2.2 33.25,-2.2 29.25,-2.2 ; 29.25,-0.5 29.25,0.5 33.25,0.5 33.25,-0.5 29.25,-0.5 ; 29.8,-5.25 cw(c31.25,-5.589) 32.7,-5.25 cw(c31.25,-4.911) 29.8,-5.25 ; 34.25,-2.2 34.25,2.2 38.25,2.2 38.25,-2.2 34.25,-2.2 ; 34.25,-0.5 34.25,0.5 38.25,0.5 38.25,-0.5 34.25,-0.5 ; 34.8,-5.25 cw(c36.25,-5.589) 37.7,-5.25 cw(c36.25,-4.911) 34.8,-5.25
  text "'.Designator'" at 13.953,0.96 h1
F.CrtYd:
  lines w0.254: -3.25,-7.2 -3.25,8.8 39.25,8.8 39.25,-7.2 -3.25,-7.2

## TerminalBlock_WAGO_804-109_1x09_P5.00mm_45Degree [mm]
pads (18):
  rrect12% 2x3 hole 1.2: 1(0,0)
  rect 2x3 hole 1.2: 1(2.5,5)
  rrect100% 2x3 hole 1.2: 2(5,0) 2(7.5,5) 3(10,0) 3(12.5,5) 4(15,0) 4(17.5,5) 5(20,0) 5(22.5,5) 6(25,0) 6(27.5,5) 7(30,0) 7(32.5,5) 8(35,0) 8(37.5,5) 9(40,0) 9(42.5,5)
F.SilkS:
  region: 0.44,-7.43 -0.44,-7.43 0,-6.82
  lines w0.254: -2.87,-3.8 43.87,-3.8 ; -1.25,-6.82 -1.25,-1.98 ; -1.25,1.98 -1.25,8.42 ; -0.75,-1.98 -0.75,-2.2 3.25,-2.2 3.25,2.2 -0.75,2.2 -0.75,1.98 ; -0.3,-6.82 -2.87,-6.82 -2.87,8.42 43.87,8.42 43.87,6.98 ; 0.3,-6.82 43.87,-6.82 43.87,3.02 ; 1.02,4.268 cw(c1.25,5.75) 2.109,6.98 ; 1.48,-0.5 3.25,-0.5 3.25,0.5 1.48,0.5 ; 3.75,-6.82 3.75,-1.98 ; 3.75,1.98 3.75,3.02 ; 3.75,6.98 3.75,8.42 ; 4.25,-1.98 4.25,-2.2 8.25,-2.2 8.25,2.2 4.25,2.2 4.25,1.98 ; 6.02,4.268 cw(c6.25,5.75) 7.109,6.98 ; 6.48,-0.5 8.25,-0.5 8.25,0.5 6.48,0.5 ; 8.75,-6.82 8.75,-1.98 ; 8.75,1.98 8.75,3.02 ; 8.75,6.98 8.75,8.42 ; 9.25,-1.98 9.25,-2.2 13.25,-2.2 13.25,2.2 9.25,2.2 9.25,1.98 ; 11.02,4.268 cw(c11.25,5.75) 12.109,6.98 ; 11.48,-0.5 13.25,-0.5 13.25,0.5 11.48,0.5 ; 13.75,-6.82 13.75,-1.98 ; 13.75,1.98 13.75,3.02 ; 13.75,6.98 13.75,8.42 ; 14.25,-1.98 14.25,-2.2 18.25,-2.2 18.25,2.2 14.25,2.2 14.25,1.98 ; 16.02,4.268 cw(c16.25,5.75) 17.109,6.98 ; 16.48,-0.5 18.25,-0.5 18.25,0.5 16.48,0.5 ; 18.75,-6.82 18.75,-1.98 ; 18.75,1.98 18.75,3.02 ; 18.75,6.98 18.75,8.42 ; 19.25,-1.98 19.25,-2.2 23.25,-2.2 23.25,2.2 19.25,2.2 19.25,1.98 ; 21.02,4.268 cw(c21.25,5.75) 22.109,6.98 ; 21.48,-0.5 23.25,-0.5 23.25,0.5 21.48,0.5 ; 23.75,-6.82 23.75,-1.98 ; 23.75,1.98 23.75,3.02 ; 23.75,6.98 23.75,8.42 ; 24.25,-1.98 24.25,-2.2 28.25,-2.2 28.25,2.2 24.25,2.2 24.25,1.98 ; 26.02,4.268 cw(c26.25,5.75) 27.109,6.98 ; 26.48,-0.5 28.25,-0.5 28.25,0.5 26.48,0.5 ; 28.75,-6.82 28.75,-1.98 ; 28.75,1.98 28.75,3.02 ; 28.75,6.98 28.75,8.42 ; 29.25,-1.98 29.25,-2.2 33.25,-2.2 33.25,2.2 29.25,2.2 29.25,1.98 ; 31.02,4.268 cw(c31.25,5.75) 32.109,6.98 ; 31.48,-0.5 33.25,-0.5 33.25,0.5 31.48,0.5 ; 33.75,-6.82 33.75,-1.98 ; 33.75,1.98 33.75,3.02 ; 33.75,6.98 33.75,8.42 ; 34.25,-1.98 34.25,-2.2 38.25,-2.2 38.25,2.2 34.25,2.2 34.25,1.98 ; 36.02,4.268 cw(c36.25,5.75) 37.109,6.98 ; 36.48,-0.5 38.25,-0.5 38.25,0.5 36.48,0.5 ; 38.75,-6.82 38.75,-1.98 ; 38.75,1.98 38.75,3.02 ; 38.75,6.98 38.75,8.42 ; 39.25,-1.98 39.25,-2.2 43.25,-2.2 43.25,2.2 39.25,2.2 39.25,1.98 ; 41.02,4.268 cw(c41.25,5.75) 42.109,6.98 ; 41.48,-0.5 43.25,-0.5 43.25,0.5 41.48,0.5 ; -0.2,-5.25 cw(c1.25,-5.589) 2.7,-5.25 cw(c1.25,-4.911) -0.2,-5.25 ; 4.8,-5.25 cw(c6.25,-5.589) 7.7,-5.25 cw(c6.25,-4.911) 4.8,-5.25 ; 9.8,-5.25 cw(c11.25,-5.589) 12.7,-5.25 cw(c11.25,-4.911) 9.8,-5.25 ; 14.8,-5.25 cw(c16.25,-5.589) 17.7,-5.25 cw(c16.25,-4.911) 14.8,-5.25 ; 19.8,-5.25 cw(c21.25,-5.589) 22.7,-5.25 cw(c21.25,-4.911) 19.8,-5.25 ; 24.8,-5.25 cw(c26.25,-5.589) 27.7,-5.25 cw(c26.25,-4.911) 24.8,-5.25 ; 29.8,-5.25 cw(c31.25,-5.589) 32.7,-5.25 cw(c31.25,-4.911) 29.8,-5.25 ; 34.8,-5.25 cw(c36.25,-5.589) 37.7,-5.25 cw(c36.25,-4.911) 34.8,-5.25 ; 39.8,-5.25 cw(c41.25,-5.589) 42.7,-5.25 cw(c41.25,-4.911) 39.8,-5.25
F.Fab:
  circle w0.254: c1.25,5.75 r1.5
  circle w0.254: c6.25,5.75 r1.5
  circle w0.254: c11.25,5.75 r1.5
  circle w0.254: c16.25,5.75 r1.5
  circle w0.254: c21.25,5.75 r1.5
  circle w0.254: c26.25,5.75 r1.5
  circle w0.254: c31.25,5.75 r1.5
  circle w0.254: c36.25,5.75 r1.5
  circle w0.254: c41.25,5.75 r1.5
  lines w0.254: -2.75,-3.8 43.75,-3.8 ; -1.25,-6.7 -1.25,8.3 ; 3.75,-6.7 3.75,8.3 ; 8.75,-6.7 8.75,8.3 ; 13.75,-6.7 13.75,8.3 ; 18.75,-6.7 18.75,8.3 ; 23.75,-6.7 23.75,8.3 ; 28.75,-6.7 28.75,8.3 ; 33.75,-6.7 33.75,8.3 ; 38.75,-6.7 38.75,8.3 ; -2.75,-4.7 -2.75,8.3 43.75,8.3 43.75,-6.7 -0.75,-6.7 -2.75,-4.7 ; -0.75,-2.2 -0.75,2.2 3.25,2.2 3.25,-2.2 -0.75,-2.2 ; -0.75,-0.5 -0.75,0.5 3.25,0.5 3.25,-0.5 -0.75,-0.5 ; -0.2,-5.25 cw(c1.25,-5.589) 2.7,-5.25 cw(c1.25,-4.911) -0.2,-5.25 ; 4.25,-2.2 4.25,2.2 8.25,2.2 8.25,-2.2 4.25,-2.2 ; 4.25,-0.5 4.25,0.5 8.25,0.5 8.25,-0.5 4.25,-0.5 ; 4.8,-5.25 cw(c6.25,-5.589) 7.7,-5.25 cw(c6.25,-4.911) 4.8,-5.25 ; 9.25,-2.2 9.25,2.2 13.25,2.2 13.25,-2.2 9.25,-2.2 ; 9.25,-0.5 9.25,0.5 13.25,0.5 13.25,-0.5 9.25,-0.5 ; 9.8,-5.25 cw(c11.25,-5.589) 12.7,-5.25 cw(c11.25,-4.911) 9.8,-5.25 ; 14.25,-2.2 14.25,2.2 18.25,2.2 18.25,-2.2 14.25,-2.2 ; 14.25,-0.5 14.25,0.5 18.25,0.5 18.25,-0.5 14.25,-0.5 ; 14.8,-5.25 cw(c16.25,-5.589) 17.7,-5.25 cw(c16.25,-4.911) 14.8,-5.25 ; 19.25,-2.2 19.25,2.2 23.25,2.2 23.25,-2.2 19.25,-2.2 ; 19.25,-0.5 19.25,0.5 23.25,0.5 23.25,-0.5 19.25,-0.5 ; 19.8,-5.25 cw(c21.25,-5.589) 22.7,-5.25 cw(c21.25,-4.911) 19.8,-5.25 ; 24.25,-2.2 24.25,2.2 28.25,2.2 28.25,-2.2 24.25,-2.2 ; 24.25,-0.5 24.25,0.5 28.25,0.5 28.25,-0.5 24.25,-0.5 ; 24.8,-5.25 cw(c26.25,-5.589) 27.7,-5.25 cw(c26.25,-4.911) 24.8,-5.25 ; 29.25,-2.2 29.25,2.2 33.25,2.2 33.25,-2.2 29.25,-2.2 ; 29.25,-0.5 29.25,0.5 33.25,0.5 33.25,-0.5 29.25,-0.5 ; 29.8,-5.25 cw(c31.25,-5.589) 32.7,-5.25 cw(c31.25,-4.911) 29.8,-5.25 ; 34.25,-2.2 34.25,2.2 38.25,2.2 38.25,-2.2 34.25,-2.2 ; 34.25,-0.5 34.25,0.5 38.25,0.5 38.25,-0.5 34.25,-0.5 ; 34.8,-5.25 cw(c36.25,-5.589) 37.7,-5.25 cw(c36.25,-4.911) 34.8,-5.25 ; 39.25,-2.2 39.25,2.2 43.25,2.2 43.25,-2.2 39.25,-2.2 ; 39.25,-0.5 39.25,0.5 43.25,0.5 43.25,-0.5 39.25,-0.5 ; 39.8,-5.25 cw(c41.25,-5.589) 42.7,-5.25 cw(c41.25,-4.911) 39.8,-5.25
  text "'.Designator'" at 16.453,0.96 h1
F.CrtYd:
  lines w0.254: -3.25,-7.2 -3.25,8.8 44.25,8.8 44.25,-7.2 -3.25,-7.2

## TerminalBlock_WAGO_804-110_1x10_P5.00mm_45Degree [mm]
pads (20):
  rrect12% 2x3 hole 1.2: 1(0,0)
  rect 2x3 hole 1.2: 1(2.5,5)
  rrect100% 2x3 hole 1.2: 2(5,0) 2(7.5,5) 3(10,0) 3(12.5,5) 4(15,0) 4(17.5,5) 5(20,0) 5(22.5,5) 6(25,0) 6(27.5,5) 7(30,0) 7(32.5,5) 8(35,0) 8(37.5,5) 9(40,0) 9(42.5,5) 10(45,0) 10(47.5,5)
F.SilkS:
  region: 0.44,-7.43 -0.44,-7.43 0,-6.82
  lines w0.254: -2.87,-3.8 48.87,-3.8 ; -1.25,-6.82 -1.25,-1.98 ; -1.25,1.98 -1.25,8.42 ; -0.75,-1.98 -0.75,-2.2 3.25,-2.2 3.25,2.2 -0.75,2.2 -0.75,1.98 ; -0.3,-6.82 -2.87,-6.82 -2.87,8.42 48.87,8.42 48.87,6.98 ; 0.3,-6.82 48.87,-6.82 48.87,3.02 ; 1.02,4.268 cw(c1.25,5.75) 2.109,6.98 ; 1.48,-0.5 3.25,-0.5 3.25,0.5 1.48,0.5 ; 3.75,-6.82 3.75,-1.98 ; 3.75,1.98 3.75,3.02 ; 3.75,6.98 3.75,8.42 ; 4.25,-1.98 4.25,-2.2 8.25,-2.2 8.25,2.2 4.25,2.2 4.25,1.98 ; 6.02,4.268 cw(c6.25,5.75) 7.109,6.98 ; 6.48,-0.5 8.25,-0.5 8.25,0.5 6.48,0.5 ; 8.75,-6.82 8.75,-1.98 ; 8.75,1.98 8.75,3.02 ; 8.75,6.98 8.75,8.42 ; 9.25,-1.98 9.25,-2.2 13.25,-2.2 13.25,2.2 9.25,2.2 9.25,1.98 ; 11.02,4.268 cw(c11.25,5.75) 12.109,6.98 ; 11.48,-0.5 13.25,-0.5 13.25,0.5 11.48,0.5 ; 13.75,-6.82 13.75,-1.98 ; 13.75,1.98 13.75,3.02 ; 13.75,6.98 13.75,8.42 ; 14.25,-1.98 14.25,-2.2 18.25,-2.2 18.25,2.2 14.25,2.2 14.25,1.98 ; 16.02,4.268 cw(c16.25,5.75) 17.109,6.98 ; 16.48,-0.5 18.25,-0.5 18.25,0.5 16.48,0.5 ; 18.75,-6.82 18.75,-1.98 ; 18.75,1.98 18.75,3.02 ; 18.75,6.98 18.75,8.42 ; 19.25,-1.98 19.25,-2.2 23.25,-2.2 23.25,2.2 19.25,2.2 19.25,1.98 ; 21.02,4.268 cw(c21.25,5.75) 22.109,6.98 ; 21.48,-0.5 23.25,-0.5 23.25,0.5 21.48,0.5 ; 23.75,-6.82 23.75,-1.98 ; 23.75,1.98 23.75,3.02 ; 23.75,6.98 23.75,8.42 ; 24.25,-1.98 24.25,-2.2 28.25,-2.2 28.25,2.2 24.25,2.2 24.25,1.98 ; 26.02,4.268 cw(c26.25,5.75) 27.109,6.98 ; 26.48,-0.5 28.25,-0.5 28.25,0.5 26.48,0.5 ; 28.75,-6.82 28.75,-1.98 ; 28.75,1.98 28.75,3.02 ; 28.75,6.98 28.75,8.42 ; 29.25,-1.98 29.25,-2.2 33.25,-2.2 33.25,2.2 29.25,2.2 29.25,1.98 ; 31.02,4.268 cw(c31.25,5.75) 32.109,6.98 ; 31.48,-0.5 33.25,-0.5 33.25,0.5 31.48,0.5 ; 33.75,-6.82 33.75,-1.98 ; 33.75,1.98 33.75,3.02 ; 33.75,6.98 33.75,8.42 ; 34.25,-1.98 34.25,-2.2 38.25,-2.2 38.25,2.2 34.25,2.2 34.25,1.98 ; 36.02,4.268 cw(c36.25,5.75) 37.109,6.98 ; 36.48,-0.5 38.25,-0.5 38.25,0.5 36.48,0.5 ; 38.75,-6.82 38.75,-1.98 ; 38.75,1.98 38.75,3.02 ; 38.75,6.98 38.75,8.42 ; 39.25,-1.98 39.25,-2.2 43.25,-2.2 43.25,2.2 39.25,2.2 39.25,1.98 ; 41.02,4.268 cw(c41.25,5.75) 42.109,6.98 ; 41.48,-0.5 43.25,-0.5 43.25,0.5 41.48,0.5 ; 43.75,-6.82 43.75,-1.98 ; 43.75,1.98 43.75,3.02 ; 43.75,6.98 43.75,8.42 ; 44.25,-1.98 44.25,-2.2 48.25,-2.2 48.25,2.2 44.25,2.2 44.25,1.98 ; 46.02,4.268 cw(c46.25,5.75) 47.109,6.98 ; 46.48,-0.5 48.25,-0.5 48.25,0.5 46.48,0.5 ; -0.2,-5.25 cw(c1.25,-5.589) 2.7,-5.25 cw(c1.25,-4.911) -0.2,-5.25 ; 4.8,-5.25 cw(c6.25,-5.589) 7.7,-5.25 cw(c6.25,-4.911) 4.8,-5.25 ; 9.8,-5.25 cw(c11.25,-5.589) 12.7,-5.25 cw(c11.25,-4.911) 9.8,-5.25 ; 14.8,-5.25 cw(c16.25,-5.589) 17.7,-5.25 cw(c16.25,-4.911) 14.8,-5.25 ; 19.8,-5.25 cw(c21.25,-5.589) 22.7,-5.25 cw(c21.25,-4.911) 19.8,-5.25 ; 24.8,-5.25 cw(c26.25,-5.589) 27.7,-5.25 cw(c26.25,-4.911) 24.8,-5.25 ; 29.8,-5.25 cw(c31.25,-5.589) 32.7,-5.25 cw(c31.25,-4.911) 29.8,-5.25 ; 34.8,-5.25 cw(c36.25,-5.589) 37.7,-5.25 cw(c36.25,-4.911) 34.8,-5.25 ; 39.8,-5.25 cw(c41.25,-5.589) 42.7,-5.25 cw(c41.25,-4.911) 39.8,-5.25 ; 44.8,-5.25 cw(c46.25,-5.589) 47.7,-5.25 cw(c46.25,-4.911) 44.8,-5.25
F.Fab:
  circle w0.254: c1.25,5.75 r1.5
  circle w0.254: c6.25,5.75 r1.5
  circle w0.254: c11.25,5.75 r1.5
  circle w0.254: c16.25,5.75 r1.5
  circle w0.254: c21.25,5.75 r1.5
  circle w0.254: c26.25,5.75 r1.5
  circle w0.254: c31.25,5.75 r1.5
  circle w0.254: c36.25,5.75 r1.5
  circle w0.254: c41.25,5.75 r1.5
  circle w0.254: c46.25,5.75 r1.5
  lines w0.254: -2.75,-3.8 48.75,-3.8 ; -1.25,-6.7 -1.25,8.3 ; 3.75,-6.7 3.75,8.3 ; 8.75,-6.7 8.75,8.3 ; 13.75,-6.7 13.75,8.3 ; 18.75,-6.7 18.75,8.3 ; 23.75,-6.7 23.75,8.3 ; 28.75,-6.7 28.75,8.3 ; 33.75,-6.7 33.75,8.3 ; 38.75,-6.7 38.75,8.3 ; 43.75,-6.7 43.75,8.3 ; -2.75,-4.7 -2.75,8.3 48.75,8.3 48.75,-6.7 -0.75,-6.7 -2.75,-4.7 ; -0.75,-2.2 -0.75,2.2 3.25,2.2 3.25,-2.2 -0.75,-2.2 ; -0.75,-0.5 -0.75,0.5 3.25,0.5 3.25,-0.5 -0.75,-0.5 ; -0.2,-5.25 cw(c1.25,-5.589) 2.7,-5.25 cw(c1.25,-4.911) -0.2,-5.25 ; 4.25,-2.2 4.25,2.2 8.25,2.2 8.25,-2.2 4.25,-2.2 ; 4.25,-0.5 4.25,0.5 8.25,0.5 8.25,-0.5 4.25,-0.5 ; 4.8,-5.25 cw(c6.25,-5.589) 7.7,-5.25 cw(c6.25,-4.911) 4.8,-5.25 ; 9.25,-2.2 9.25,2.2 13.25,2.2 13.25,-2.2 9.25,-2.2 ; 9.25,-0.5 9.25,0.5 13.25,0.5 13.25,-0.5 9.25,-0.5 ; 9.8,-5.25 cw(c11.25,-5.589) 12.7,-5.25 cw(c11.25,-4.911) 9.8,-5.25 ; 14.25,-2.2 14.25,2.2 18.25,2.2 18.25,-2.2 14.25,-2.2 ; 14.25,-0.5 14.25,0.5 18.25,0.5 18.25,-0.5 14.25,-0.5 ; 14.8,-5.25 cw(c16.25,-5.589) 17.7,-5.25 cw(c16.25,-4.911) 14.8,-5.25 ; 19.25,-2.2 19.25,2.2 23.25,2.2 23.25,-2.2 19.25,-2.2 ; 19.25,-0.5 19.25,0.5 23.25,0.5 23.25,-0.5 19.25,-0.5 ; 19.8,-5.25 cw(c21.25,-5.589) 22.7,-5.25 cw(c21.25,-4.911) 19.8,-5.25 ; 24.25,-2.2 24.25,2.2 28.25,2.2 28.25,-2.2 24.25,-2.2 ; 24.25,-0.5 24.25,0.5 28.25,0.5 28.25,-0.5 24.25,-0.5 ; 24.8,-5.25 cw(c26.25,-5.589) 27.7,-5.25 cw(c26.25,-4.911) 24.8,-5.25 ; 29.25,-2.2 29.25,2.2 33.25,2.2 33.25,-2.2 29.25,-2.2 ; 29.25,-0.5 29.25,0.5 33.25,0.5 33.25,-0.5 29.25,-0.5 ; 29.8,-5.25 cw(c31.25,-5.589) 32.7,-5.25 cw(c31.25,-4.911) 29.8,-5.25 ; 34.25,-2.2 34.25,2.2 38.25,2.2 38.25,-2.2 34.25,-2.2 ; 34.25,-0.5 34.25,0.5 38.25,0.5 38.25,-0.5 34.25,-0.5 ; 34.8,-5.25 cw(c36.25,-5.589) 37.7,-5.25 cw(c36.25,-4.911) 34.8,-5.25 ; 39.25,-2.2 39.25,2.2 43.25,2.2 43.25,-2.2 39.25,-2.2 ; 39.25,-0.5 39.25,0.5 43.25,0.5 43.25,-0.5 39.25,-0.5 ; 39.8,-5.25 cw(c41.25,-5.589) 42.7,-5.25 cw(c41.25,-4.911) 39.8,-5.25 ; 44.25,-2.2 44.25,2.2 48.25,2.2 48.25,-2.2 44.25,-2.2 ; 44.25,-0.5 44.25,0.5 48.25,0.5 48.25,-0.5 44.25,-0.5 ; 44.8,-5.25 cw(c46.25,-5.589) 47.7,-5.25 cw(c46.25,-4.911) 44.8,-5.25
  text "'.Designator'" at 18.953,0.96 h1
F.CrtYd:
  lines w0.254: -3.25,-7.2 -3.25,8.8 49.25,8.8 49.25,-7.2 -3.25,-7.2

## TerminalBlock_WAGO_804-111_1x11_P5.00mm_45Degree [mm]
pads (22):
  rrect12% 2x3 hole 1.2: 1(0,0)
  rect 2x3 hole 1.2: 1(2.5,5)
  rrect100% 2x3 hole 1.2: 2(5,0) 2(7.5,5) 3(10,0) 3(12.5,5) 4(15,0) 4(17.5,5) 5(20,0) 5(22.5,5) 6(25,0) 6(27.5,5) 7(30,0) 7(32.5,5) 8(35,0) 8(37.5,5) 9(40,0) 9(42.5,5) 10(45,0) 10(47.5,5) 11(50,0) 11(52.5,5)
F.SilkS:
  drawing of 161 lines, arcs and shapes, not listed
F.Fab:
  circle w0.254: c1.25,5.75 r1.5
  circle w0.254: c6.25,5.75 r1.5
  circle w0.254: c11.25,5.75 r1.5
  circle w0.254: c16.25,5.75 r1.5
  circle w0.254: c21.25,5.75 r1.5
  circle w0.254: c26.25,5.75 r1.5
  circle w0.254: c31.25,5.75 r1.5
  circle w0.254: c36.25,5.75 r1.5
  circle w0.254: c41.25,5.75 r1.5
  circle w0.254: c46.25,5.75 r1.5
  circle w0.254: c51.25,5.75 r1.5
  lines w0.254: -2.75,-3.8 53.75,-3.8 ; -1.25,-6.7 -1.25,8.3 ; 3.75,-6.7 3.75,8.3 ; 8.75,-6.7 8.75,8.3 ; 13.75,-6.7 13.75,8.3 ; 18.75,-6.7 18.75,8.3 ; 23.75,-6.7 23.75,8.3 ; 28.75,-6.7 28.75,8.3 ; 33.75,-6.7 33.75,8.3 ; 38.75,-6.7 38.75,8.3 ; 43.75,-6.7 43.75,8.3 ; 48.75,-6.7 48.75,8.3 ; -2.75,-4.7 -2.75,8.3 53.75,8.3 53.75,-6.7 -0.75,-6.7 -2.75,-4.7 ; -0.75,-2.2 -0.75,2.2 3.25,2.2 3.25,-2.2 -0.75,-2.2 ; -0.75,-0.5 -0.75,0.5 3.25,0.5 3.25,-0.5 -0.75,-0.5 ; -0.2,-5.25 cw(c1.25,-5.589) 2.7,-5.25 cw(c1.25,-4.911) -0.2,-5.25 ; 4.25,-2.2 4.25,2.2 8.25,2.2 8.25,-2.2 4.25,-2.2 ; 4.25,-0.5 4.25,0.5 8.25,0.5 8.25,-0.5 4.25,-0.5 ; 4.8,-5.25 cw(c6.25,-5.589) 7.7,-5.25 cw(c6.25,-4.911) 4.8,-5.25 ; 9.25,-2.2 9.25,2.2 13.25,2.2 13.25,-2.2 9.25,-2.2 ; 9.25,-0.5 9.25,0.5 13.25,0.5 13.25,-0.5 9.25,-0.5 ; 9.8,-5.25 cw(c11.25,-5.589) 12.7,-5.25 cw(c11.25,-4.911) 9.8,-5.25 ; 14.25,-2.2 14.25,2.2 18.25,2.2 18.25,-2.2 14.25,-2.2 ; 14.25,-0.5 14.25,0.5 18.25,0.5 18.25,-0.5 14.25,-0.5 ; 14.8,-5.25 cw(c16.25,-5.589) 17.7,-5.25 cw(c16.25,-4.911) 14.8,-5.25 ; 19.25,-2.2 19.25,2.2 23.25,2.2 23.25,-2.2 19.25,-2.2 ; 19.25,-0.5 19.25,0.5 23.25,0.5 23.25,-0.5 19.25,-0.5 ; 19.8,-5.25 cw(c21.25,-5.589) 22.7,-5.25 cw(c21.25,-4.911) 19.8,-5.25 ; 24.25,-2.2 24.25,2.2 28.25,2.2 28.25,-2.2 24.25,-2.2 ; 24.25,-0.5 24.25,0.5 28.25,0.5 28.25,-0.5 24.25,-0.5 ; 24.8,-5.25 cw(c26.25,-5.589) 27.7,-5.25 cw(c26.25,-4.911) 24.8,-5.25 ; 29.25,-2.2 29.25,2.2 33.25,2.2 33.25,-2.2 29.25,-2.2 ; 29.25,-0.5 29.25,0.5 33.25,0.5 33.25,-0.5 29.25,-0.5 ; 29.8,-5.25 cw(c31.25,-5.589) 32.7,-5.25 cw(c31.25,-4.911) 29.8,-5.25 ; 34.25,-2.2 34.25,2.2 38.25,2.2 38.25,-2.2 34.25,-2.2 ; 34.25,-0.5 34.25,0.5 38.25,0.5 38.25,-0.5 34.25,-0.5 ; 34.8,-5.25 cw(c36.25,-5.589) 37.7,-5.25 cw(c36.25,-4.911) 34.8,-5.25 ; 39.25,-2.2 39.25,2.2 43.25,2.2 43.25,-2.2 39.25,-2.2 ; 39.25,-0.5 39.25,0.5 43.25,0.5 43.25,-0.5 39.25,-0.5 ; 39.8,-5.25 cw(c41.25,-5.589) 42.7,-5.25 cw(c41.25,-4.911) 39.8,-5.25 ; 44.25,-2.2 44.25,2.2 48.25,2.2 48.25,-2.2 44.25,-2.2 ; 44.25,-0.5 44.25,0.5 48.25,0.5 48.25,-0.5 44.25,-0.5 ; 44.8,-5.25 cw(c46.25,-5.589) 47.7,-5.25 cw(c46.25,-4.911) 44.8,-5.25 ; 49.25,-2.2 49.25,2.2 53.25,2.2 53.25,-2.2 49.25,-2.2 ; 49.25,-0.5 49.25,0.5 53.25,0.5 53.25,-0.5 49.25,-0.5 ; 49.8,-5.25 cw(c51.25,-5.589) 52.7,-5.25 cw(c51.25,-4.911) 49.8,-5.25
  text "'.Designator'" at 21.453,0.96 h1
F.CrtYd:
  lines w0.254: -3.25,-7.2 -3.25,8.8 54.25,8.8 54.25,-7.2 -3.25,-7.2

## TerminalBlock_WAGO_804-112_1x12_P5.00mm_45Degree [mm]
pads (24):
  rrect12% 2x3 hole 1.2: 1(0,0)
  rect 2x3 hole 1.2: 1(2.5,5)
  rrect100% 2x3 hole 1.2: 2(5,0) 2(7.5,5) 3(10,0) 3(12.5,5) 4(15,0) 4(17.5,5) 5(20,0) 5(22.5,5) 6(25,0) 6(27.5,5) 7(30,0) 7(32.5,5) 8(35,0) 8(37.5,5) 9(40,0) 9(42.5,5) 10(45,0) 10(47.5,5) 11(50,0) 11(52.5,5) 12(55,0) 12(57.5,5)
F.SilkS:
  drawing of 175 lines, arcs and shapes, not listed
F.Fab:
  circle w0.254: c1.25,5.75 r1.5
  circle w0.254: c6.25,5.75 r1.5
  circle w0.254: c11.25,5.75 r1.5
  circle w0.254: c16.25,5.75 r1.5
  circle w0.254: c21.25,5.75 r1.5
  circle w0.254: c26.25,5.75 r1.5
  circle w0.254: c31.25,5.75 r1.5
  circle w0.254: c36.25,5.75 r1.5
  circle w0.254: c41.25,5.75 r1.5
  circle w0.254: c46.25,5.75 r1.5
  circle w0.254: c51.25,5.75 r1.5
  circle w0.254: c56.25,5.75 r1.5
  lines w0.254: -2.75,-3.8 58.75,-3.8 ; -1.25,-6.7 -1.25,8.3 ; 3.75,-6.7 3.75,8.3 ; 8.75,-6.7 8.75,8.3 ; 13.75,-6.7 13.75,8.3 ; 18.75,-6.7 18.75,8.3 ; 23.75,-6.7 23.75,8.3 ; 28.75,-6.7 28.75,8.3 ; 33.75,-6.7 33.75,8.3 ; 38.75,-6.7 38.75,8.3 ; 43.75,-6.7 43.75,8.3 ; 48.75,-6.7 48.75,8.3 ; 53.75,-6.7 53.75,8.3 ; -2.75,-4.7 -2.75,8.3 58.75,8.3 58.75,-6.7 -0.75,-6.7 -2.75,-4.7 ; -0.75,-2.2 -0.75,2.2 3.25,2.2 3.25,-2.2 -0.75,-2.2 ; -0.75,-0.5 -0.75,0.5 3.25,0.5 3.25,-0.5 -0.75,-0.5 ; -0.2,-5.25 cw(c1.25,-5.589) 2.7,-5.25 cw(c1.25,-4.911) -0.2,-5.25 ; 4.25,-2.2 4.25,2.2 8.25,2.2 8.25,-2.2 4.25,-2.2 ; 4.25,-0.5 4.25,0.5 8.25,0.5 8.25,-0.5 4.25,-0.5 ; 4.8,-5.25 cw(c6.25,-5.589) 7.7,-5.25 cw(c6.25,-4.911) 4.8,-5.25 ; 9.25,-2.2 9.25,2.2 13.25,2.2 13.25,-2.2 9.25,-2.2 ; 9.25,-0.5 9.25,0.5 13.25,0.5 13.25,-0.5 9.25,-0.5 ; 9.8,-5.25 cw(c11.25,-5.589) 12.7,-5.25 cw(c11.25,-4.911) 9.8,-5.25 ; 14.25,-2.2 14.25,2.2 18.25,2.2 18.25,-2.2 14.25,-2.2 ; 14.25,-0.5 14.25,0.5 18.25,0.5 18.25,-0.5 14.25,-0.5 ; 14.8,-5.25 cw(c16.25,-5.589) 17.7,-5.25 cw(c16.25,-4.911) 14.8,-5.25 ; 19.25,-2.2 19.25,2.2 23.25,2.2 23.25,-2.2 19.25,-2.2 ; 19.25,-0.5 19.25,0.5 23.25,0.5 23.25,-0.5 19.25,-0.5 ; 19.8,-5.25 cw(c21.25,-5.589) 22.7,-5.25 cw(c21.25,-4.911) 19.8,-5.25 ; 24.25,-2.2 24.25,2.2 28.25,2.2 28.25,-2.2 24.25,-2.2 ; 24.25,-0.5 24.25,0.5 28.25,0.5 28.25,-0.5 24.25,-0.5 ; 24.8,-5.25 cw(c26.25,-5.589) 27.7,-5.25 cw(c26.25,-4.911) 24.8,-5.25 ; 29.25,-2.2 29.25,2.2 33.25,2.2 33.25,-2.2 29.25,-2.2 ; 29.25,-0.5 29.25,0.5 33.25,0.5 33.25,-0.5 29.25,-0.5 ; 29.8,-5.25 cw(c31.25,-5.589) 32.7,-5.25 cw(c31.25,-4.911) 29.8,-5.25 ; 34.25,-2.2 34.25,2.2 38.25,2.2 38.25,-2.2 34.25,-2.2 ; 34.25,-0.5 34.25,0.5 38.25,0.5 38.25,-0.5 34.25,-0.5 ; 34.8,-5.25 cw(c36.25,-5.589) 37.7,-5.25 cw(c36.25,-4.911) 34.8,-5.25 ; 39.25,-2.2 39.25,2.2 43.25,2.2 43.25,-2.2 39.25,-2.2 ; 39.25,-0.5 39.25,0.5 43.25,0.5 43.25,-0.5 39.25,-0.5 ; 39.8,-5.25 cw(c41.25,-5.589) 42.7,-5.25 cw(c41.25,-4.911) 39.8,-5.25 ; 44.25,-2.2 44.25,2.2 48.25,2.2 48.25,-2.2 44.25,-2.2 ; 44.25,-0.5 44.25,0.5 48.25,0.5 48.25,-0.5 44.25,-0.5 ; 44.8,-5.25 cw(c46.25,-5.589) 47.7,-5.25 cw(c46.25,-4.911) 44.8,-5.25 ; 49.25,-2.2 49.25,2.2 53.25,2.2 53.25,-2.2 49.25,-2.2 ; 49.25,-0.5 49.25,0.5 53.25,0.5 53.25,-0.5 49.25,-0.5 ; 49.8,-5.25 cw(c51.25,-5.589) 52.7,-5.25 cw(c51.25,-4.911) 49.8,-5.25 ; 54.25,-2.2 54.25,2.2 58.25,2.2 58.25,-2.2 54.25,-2.2 ; 54.25,-0.5 54.25,0.5 58.25,0.5 58.25,-0.5 54.25,-0.5 ; 54.8,-5.25 cw(c56.25,-5.589) 57.7,-5.25 cw(c56.25,-4.911) 54.8,-5.25
  text "'.Designator'" at 23.953,0.96 h1
F.CrtYd:
  lines w0.254: -3.25,-7.2 -3.25,8.8 59.25,8.8 59.25,-7.2 -3.25,-7.2